# Altium footprint library stratos.PcbLib: 39 footprints (part 2 of 3)
Each footprint in its own frame and in the unit in brackets; x right, y up, seen from the top. Pads: shape width x height; smd on the part's side, far side on the other; paste and mask are expansions set on the pad; w line width, h text height; cw(c..) or ccw(c..) is an arc to the next point about the centre after c.
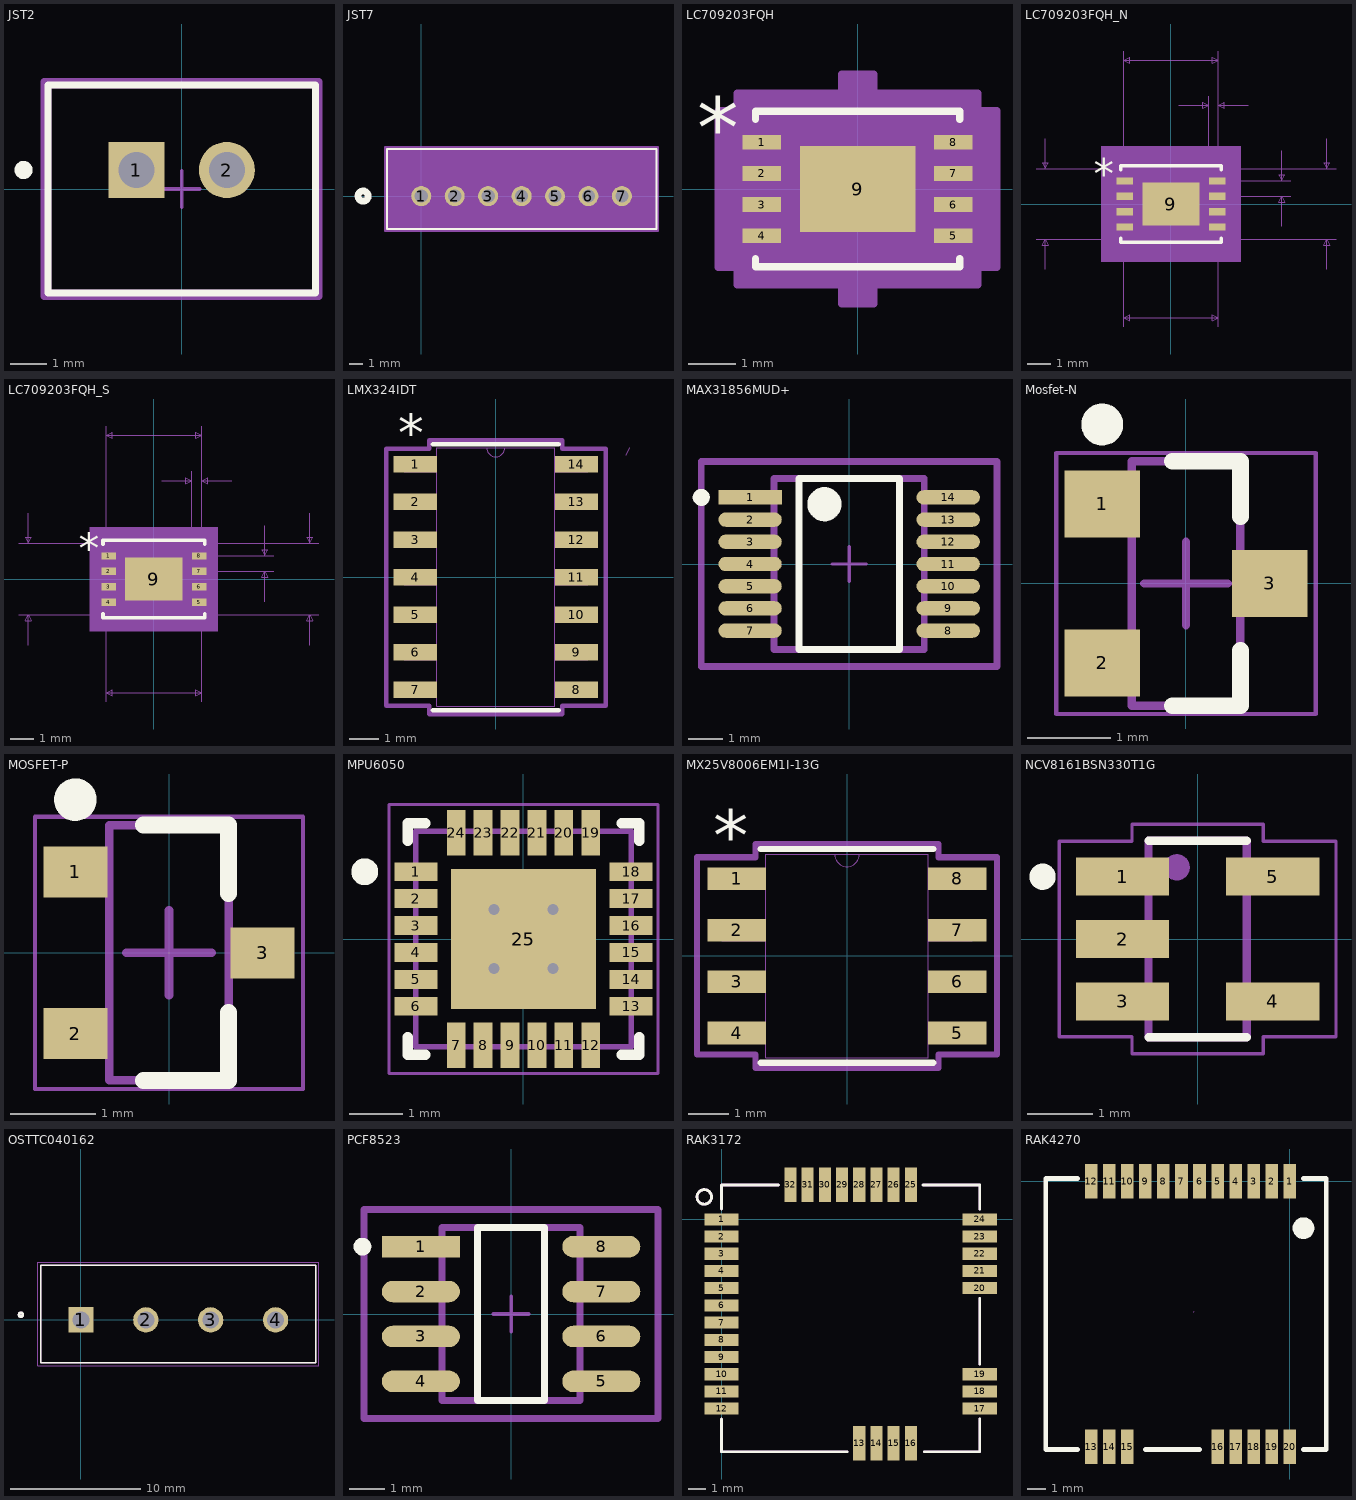
[diagram p1: the footprints below, top view; thin cyan lines are the x and y axes]

## JST2 [mm] "CONN HEADER VERT 2POS 2.5MM"
pads (2):
  rect 1.55x1.55 hole 1 paste-1000 mask+0: 1(-1.25,0.525)
  round 1.55 hole 1 paste-1000 mask+0: 2(1.25,0.525)
Top Overlay:
  circle w0.25: c-4.375,0.525 r0.125
  lines w0.2: -3.7,-2.875 -3.7,2.875 3.7,2.875 3.7,-2.875 -3.7,-2.875
Mechanical 5:
  lines w0.2: -3.8,-2.975 -3.8,2.975 3.8,2.975 3.8,-2.975 -3.8,-2.975
  text ".Designator" at 0,0.188 h1
Mechanical 29:
  lines w0.2: -3.7,-2.875 -3.7,2.875 3.7,2.875 3.7,-2.875 -3.7,-2.875
Mechanical 15:
  lines w0.2: -3.8,-2.975 -3.8,2.975 3.8,2.975 3.8,-2.975 -3.8,-2.975
Mechanical 16:
  lines w0.1: -0.5,0 0.5,0 ; 0,-0.5 0,0.5
3D body "Conn_JST_B2B-XH-A_LF_SN_eec.STEP": height 0.25, standoff 0, extent -3.8,-2.975 3.8,2.975

## JST7 [mil] "CONN HEADER VERT 7POS 2.5MM"
pads (7):
  round 59 hole 39 mask+0: 1(0,0) 2(98.43,0) 3(196.85,0) 4(295.28,0) 5(393.7,0) 6(492.13,0) 7(590.55,0)
Top Overlay:
  circle w20: c-171.22,0 r15
  lines w6: -101.22,-97.14 -101.22,138.86 691.78,138.86 691.78,-97.14 -101.22,-97.14
Bottom Overlay:
  circle w20: c-171.22,0 r15
Mechanical 29:
  lines w1: -96.22,-92.14 -96.22,133.86 686.78,133.86 686.78,-92.14 -96.22,-92.14
Mechanical 15:
  region: 696.78,143.86 -106.22,143.86 -106.22,-102.14 696.78,-102.14
  lines w6: -106.22,-102.14 696.78,-102.14 696.78,143.86 -106.22,143.86 -106.22,-102.14
3D body: height 10, standoff 0, extent 0,0 10,10
3D body "User Library-B7B-XH-A.STEP": height 283.46, standoff -125.98, extent -96.45,-92.52 687.01,133.86

## LC709203FQH [mm] "IC BATT MON LI-ION 1CELL 8WDFN"
pads (9):
  rect 0.806x0.306 smd paste+0 mask+0: 1(-2.003,0.975) 2(-2.003,0.325) 3(-2.003,-0.325) 4(-2.003,-0.975) 5(2.003,-0.975) 6(2.003,-0.325) 7(2.003,0.325) 8(2.003,0.975)
  rect 2.413x1.803 smd paste+0 mask+0: 9(0,0)
Top Overlay:
  lines w0.152: -2.134,-1.461 -2.134,-1.626 2.134,-1.626 2.134,-1.461 ; -2.134,1.461 -2.134,1.626 2.134,1.626 2.134,1.461
  text "*" at -3.359,0.665 h1.27
Mechanical 29:
  lines w0.025: -2.007,0.229 -0.737,1.499 ; -2.007,-1.499 -2.007,1.499 2.007,1.499 2.007,-1.499 -2.007,-1.499 ; -2.007,-1.153 -2.007,-0.797 -2.007,-1.153 ; -2.007,-0.503 -2.007,-0.147 -2.007,-0.503 ; -2.007,0.147 -2.007,0.503 -2.007,0.147 ; -2.007,0.797 -2.007,1.153 -2.007,0.797 ; 2.007,-1.153 2.007,-0.797 2.007,-1.153 ; 2.007,-0.503 2.007,-0.147 2.007,-0.503 ; 2.007,0.147 2.007,0.503 2.007,0.147 ; 2.007,0.797 2.007,1.153 2.007,0.797
Mechanical 15:
  region: -0.336,-2.007 -2.515,-2.007 -2.515,-1.636 -2.915,-1.636 -2.915,1.636 -2.515,1.636 -2.515,2.007 -0.336,2.007 -0.336,2.407 0.336,2.407 0.336,2.007 2.515,2.007 2.515,1.636 2.915,1.636 2.915,-1.636 2.515,-1.636 2.515,-2.007 0.336,-2.007 0.336,-2.407 -0.336,-2.407
  lines w0.152: -2.915,-1.636 -2.915,1.636 -2.515,1.636 -2.515,2.007 -0.336,2.007 -0.336,2.407 0.336,2.407 0.336,2.007 2.515,2.007 2.515,1.636 2.915,1.636 2.915,-1.636 2.515,-1.636 2.515,-2.007 0.336,-2.007 0.336,-2.407 -0.336,-2.407 -0.336,-2.007 -2.515,-2.007 -2.515,-1.636 -2.915,-1.636
3D body "WDFN8_4X3_ONS.step": height 0.81, standoff 0, extent -2.007,-1.499 2.007,1.499
3D body: height 0.25, standoff 0, extent 0,0 0.254,0.254

## LC709203FQH_N [mm]
pads (9):
  rect 0.706x0.306 smd paste+0 mask+0: 1(-1.953,0.975) 2(-1.953,0.325) 3(-1.953,-0.325) 4(-1.953,-0.975) 5(1.953,-0.975) 6(1.953,-0.325) 7(1.953,0.325) 8(1.953,0.975)
  rect 2.413x1.803 smd paste+0 mask+0: 9(0,0)
Top Overlay:
  lines w0.152: -2.134,-1.461 -2.134,-1.626 2.134,-1.626 2.134,-1.461 ; -2.134,1.461 -2.134,1.626 2.134,1.626 2.134,1.461
  text "*" at -3.259,0.665 h1.27
Mechanical 5:
  region: 2.942,-2.434 -2.942,-2.434 -2.942,2.434 2.942,2.434
Mechanical 7:
  lines w0.025: -5.713,-1.499 2.007,-1.499 ; -5.713,1.499 2.007,1.499 2.007,-5.205 ; -5.332,-2.769 -5.332,-1.499 ; -5.332,2.769 -5.332,1.499 ; -2.007,-5.205 -2.007,1.499 ; -2.007,0.975 -2.007,6.475 ; -0.325,-1.499 6.983,-1.499 ; -0.325,1.499 6.983,1.499 ; 0.33,4.189 1.6,4.189 ; 1.6,0.975 1.6,4.57 ; 1.953,0.325 5.078,0.325 ; 1.953,0.975 5.078,0.975 ; 2.007,4.57 2.007,0.975 2.007,6.475 ; 3.277,4.189 2.007,4.189 ; 4.697,-0.945 4.697,0.325 ; 4.697,2.245 4.697,0.975 ; 6.602,-2.769 6.602,-1.499 ; 6.602,2.769 6.602,1.499 ; -5.332,-1.499 -5.459,-1.753 -5.205,-1.753 -5.332,-1.499 ; -5.332,1.499 -5.459,1.753 -5.205,1.753 -5.332,1.499 ; -2.007,-4.824 2.007,-4.824 ; -2.007,-4.824 -1.753,-4.697 -1.753,-4.951 -2.007,-4.824 ; -2.007,6.094 2.007,6.094 ; -2.007,6.094 -1.753,6.221 -1.753,5.967 -2.007,6.094 ; 1.6,4.189 1.346,4.316 1.346,4.062 1.6,4.189 ; 2.007,-4.824 1.753,-4.697 1.753,-4.951 2.007,-4.824 ; 2.007,4.189 2.261,4.316 2.261,4.062 2.007,4.189 ; 2.007,6.094 1.753,6.221 1.753,5.967 2.007,6.094 ; 4.697,0.325 4.57,0.071 4.824,0.071 4.697,0.325 ; 4.697,0.975 4.57,1.229 4.824,1.229 4.697,0.975 ; 6.602,-1.499 6.475,-1.753 6.729,-1.753 6.602,-1.499 ; 6.602,1.499 6.475,1.753 6.729,1.753 6.602,1.499
  text "Default Padstyle: r31_71" at -7.62,-9.673 h1.27
  text "Heat Tab Padstyle: r241_180" at -8.572,-11.197 h1.27
  text "Alt 1 Padstyle: b152_229h76" at -8.572,-14.245 h1.27
  text "Alt 2 Padstyle: b229_152h76" at -8.572,-15.769 h1.27
  text "0.026in/0.65mm" at 5.205,0.332 h0.64
  text "0.016in/0.406mm" at -0.578,4.697 h0.64
  text "0.158in/4.013mm" at -2.381,6.602 h0.64
  text "0.118in/2.997mm" at 7.11,-0.318 h0.64
  text "0.118in/2.997mm" at -10.602,-0.318 h0.64
  text "0.158in/4.013mm" at -2.381,-5.967 h0.64
Mechanical 29:
  lines w0.025: -2.007,0.229 -0.737,1.499 ; -2.007,-1.499 2.007,-1.499 2.007,1.499 -2.007,1.499 -2.007,-1.499 ; -2.007,-1.153 -2.007,-0.797 -2.007,-1.153 ; -2.007,-0.503 -2.007,-0.147 -2.007,-0.503 ; -2.007,0.147 -2.007,0.503 -2.007,0.147 ; -2.007,0.797 -2.007,1.153 -2.007,0.797 ; 2.007,-1.153 2.007,-0.797 2.007,-1.153 ; 2.007,-0.503 2.007,-0.147 2.007,-0.503 ; 2.007,0.147 2.007,0.503 2.007,0.147 ; 2.007,0.797 2.007,1.153 2.007,0.797
  text "*" at -1.918,0.665 h1.27
Mechanical 15:
  region: -0.082,-1.753 -2.261,-1.753 -2.261,-1.382 -2.561,-1.382 -2.561,1.382 -2.261,1.382 -2.261,1.753 -0.082,1.753 -0.082,2.053 0.082,2.053 0.082,1.753 2.261,1.753 2.261,1.382 2.561,1.382 2.561,-1.382 2.261,-1.382 2.261,-1.753 0.082,-1.753 0.082,-2.053 -0.082,-2.053
  lines w0.152: -2.561,-1.382 -2.261,-1.382 -2.261,-1.753 -0.082,-1.753 -0.082,-2.053 0.082,-2.053 0.082,-1.753 2.261,-1.753 2.261,-1.382 2.561,-1.382 2.561,1.382 2.261,1.382 2.261,1.753 0.082,1.753 0.082,2.053 -0.082,2.053 -0.082,1.753 -2.261,1.753 -2.261,1.382 -2.561,1.382 -2.561,-1.382
3D body: height 0.25, standoff 0, extent 0,0 0.254,0.254

## LC709203FQH_S [mm]
pads (9):
  rect 0.606x0.306 smd paste+0 mask+0: 1(-1.903,0.975) 2(-1.903,0.325) 3(-1.903,-0.325) 4(-1.903,-0.975) 5(1.903,-0.975) 6(1.903,-0.325) 7(1.903,0.325) 8(1.903,0.975)
  rect 2.413x1.803 smd paste+0 mask+0: 9(0,0)
Top Overlay:
  lines w0.152: -2.134,-1.461 -2.134,-1.626 2.134,-1.626 2.134,-1.461 ; -2.134,1.461 -2.134,1.626 2.134,1.626 2.134,1.461
  text "*" at -3.159,0.665 h1.27
Mechanical 5:
  region: 2.689,-2.181 -2.689,-2.181 -2.689,2.181 2.689,2.181
Mechanical 7:
  lines w0.025: -5.663,-1.499 2.007,-1.499 ; -5.663,1.499 2.007,1.499 2.007,-5.155 ; -5.282,-2.769 -5.282,-1.499 ; -5.282,2.769 -5.282,1.499 ; -2.007,-5.155 -2.007,1.499 ; -2.007,0.975 -2.007,6.425 ; -0.325,-1.499 6.933,-1.499 ; -0.325,1.499 6.933,1.499 ; 0.33,4.139 1.6,4.139 ; 1.6,0.975 1.6,4.52 ; 1.903,0.325 5.028,0.325 ; 1.903,0.975 5.028,0.975 ; 2.007,4.52 2.007,0.975 2.007,6.425 ; 3.277,4.139 2.007,4.139 ; 4.647,-0.945 4.647,0.325 ; 4.647,2.245 4.647,0.975 ; 6.552,-2.769 6.552,-1.499 ; 6.552,2.769 6.552,1.499 ; -5.282,-1.499 -5.409,-1.753 -5.155,-1.753 -5.282,-1.499 ; -5.282,1.499 -5.409,1.753 -5.155,1.753 -5.282,1.499 ; -2.007,-4.774 2.007,-4.774 ; -2.007,-4.774 -1.753,-4.647 -1.753,-4.901 -2.007,-4.774 ; -2.007,6.044 2.007,6.044 ; -2.007,6.044 -1.753,6.171 -1.753,5.917 -2.007,6.044 ; 1.6,4.139 1.346,4.266 1.346,4.012 1.6,4.139 ; 2.007,-4.774 1.753,-4.647 1.753,-4.901 2.007,-4.774 ; 2.007,4.139 2.261,4.266 2.261,4.012 2.007,4.139 ; 2.007,6.044 1.753,6.171 1.753,5.917 2.007,6.044 ; 4.647,0.325 4.52,0.071 4.774,0.071 4.647,0.325 ; 4.647,0.975 4.52,1.229 4.774,1.229 4.647,0.975 ; 6.552,-1.499 6.425,-1.753 6.679,-1.753 6.552,-1.499 ; 6.552,1.499 6.425,1.753 6.679,1.753 6.552,1.499
  text "Default Padstyle: r31_61" at -7.62,-9.573 h1.27
  text "Heat Tab Padstyle: r241_180" at -8.572,-11.097 h1.27
  text "Alt 1 Padstyle: b152_229h76" at -8.572,-14.145 h1.27
  text "Alt 2 Padstyle: b229_152h76" at -8.572,-15.669 h1.27
  text "0.026in/0.65mm" at 5.155,0.332 h0.64
  text "0.016in/0.406mm" at -0.578,4.647 h0.64
  text "0.158in/4.013mm" at -2.381,6.552 h0.64
  text "0.118in/2.997mm" at 7.06,-0.318 h0.64
  text "0.118in/2.997mm" at -10.552,-0.318 h0.64
  text "0.158in/4.013mm" at -2.381,-5.917 h0.64
Mechanical 29:
  lines w0.025: -2.007,0.229 -0.737,1.499 ; -2.007,-1.499 2.007,-1.499 2.007,1.499 -2.007,1.499 -2.007,-1.499 ; -2.007,-1.153 -2.007,-0.797 -2.007,-1.153 ; -2.007,-0.503 -2.007,-0.147 -2.007,-0.503 ; -2.007,0.147 -2.007,0.503 -2.007,0.147 ; -2.007,0.797 -2.007,1.153 -2.007,0.797 ; 2.007,-1.153 2.007,-0.797 2.007,-1.153 ; 2.007,-0.503 2.007,-0.147 2.007,-0.503 ; 2.007,0.147 2.007,0.503 2.007,0.147 ; 2.007,0.797 2.007,1.153 2.007,0.797
  text "*" at -1.918,0.665 h1.27
Mechanical 15:
  region: 0.071,-1.6 -2.108,-1.6 -2.108,-1.229 -2.308,-1.229 -2.308,1.229 -2.108,1.229 -2.108,1.6 0.071,1.6 0.071,1.8 -0.071,1.8 -0.071,1.6 2.108,1.6 2.108,1.229 2.308,1.229 2.308,-1.229 2.108,-1.229 2.108,-1.6 -0.071,-1.6 -0.071,-1.8 0.071,-1.8
  lines w0.152: -2.308,-1.229 -2.108,-1.229 -2.108,-1.6 0.071,-1.6 0.071,-1.8 -0.071,-1.8 -0.071,-1.6 2.108,-1.6 2.108,-1.229 2.308,-1.229 2.308,1.229 2.108,1.229 2.108,1.6 -0.071,1.6 -0.071,1.8 0.071,1.8 0.071,1.6 -2.108,1.6 -2.108,1.229 -2.308,1.229 -2.308,-1.229
3D body: height 0.25, standoff 0, extent 0,0 0.254,0.254

## LMX324IDT [mil] "IC OPAMP GP 4 CIRCUIT 14SO"
pads (14):
  rect 57.5x22 smd paste+0 mask+0: 1(-107.25,150) 2(-107.25,100) 3(-107.25,50) 4(-107.25,0) 5(-107.25,-50) 6(-107.25,-100) 7(-107.25,-150) 8(107.25,-150) 9(107.25,-100) 10(107.25,-50) 11(107.25,0) 12(107.25,50) 13(107.25,100) 14(107.25,150)
Top Overlay:
  lines w6: -83.5,-177 83.5,-177 ; -83.5,177 83.5,177
  text "*" at -129.75,167 h50
Mechanical 7:
  lines w1: 173.5,162 178.5,172
Mechanical 29:
  lines w0: -12,172 ccw(c0,172) 12,172
  lines w1: -122,-160 -122,-140 -78.5,-140 -78.5,-160 -122,-160 ; -122,-110 -122,-90 -78.5,-90 -78.5,-110 -122,-110 ; -122,-60 -122,-40 -78.5,-40 -78.5,-60 -122,-60 ; -122,-10 -122,10 -78.5,10 -78.5,-10 -122,-10 ; -122,40 -122,60 -78.5,60 -78.5,40 -122,40 ; -122,90 -122,110 -78.5,110 -78.5,90 -122,90 ; -122,140 -122,160 -78.5,160 -78.5,140 -122,140 ; -78.5,-172 78.5,-172 78.5,172 -78.5,172 -78.5,-172 ; 78.5,-160 78.5,-140 122,-140 122,-160 78.5,-160 ; 78.5,-110 78.5,-90 122,-90 122,-110 78.5,-110 ; 78.5,-60 78.5,-40 122,-40 122,-60 78.5,-60 ; 78.5,-10 78.5,10 122,10 122,-10 78.5,-10 ; 78.5,40 78.5,60 122,60 122,40 78.5,40 ; 78.5,90 78.5,110 122,110 122,90 78.5,90 ; 78.5,140 78.5,160 122,160 122,140 78.5,140
  text "*" at -76,119 h50
Mechanical 15:
  lines w6: -146,-171 -146,171 -88.5,171 -88.5,182 88.5,182 88.5,171 146,171 146,-171 88.5,-171 88.5,-182 -88.5,-182 -88.5,-171 -146,-171
3D body "LMX324IDT.step": height 69.09, standoff 0, extent -122,-172.01 122.01,172.01

## MAX31856MUD+ [mm] "IC CONV THERMOCOUPLE 14TSSOP"
pads (14):
  rect 1.857x0.421 smd paste+0 mask+0: 1(-2.901,1.95)
  rrect100% 1.857x0.421 smd paste+0 mask+0: 2(-2.901,1.3) 3(-2.901,0.65) 4(-2.901,0) 5(-2.901,-0.65) 6(-2.901,-1.3) 7(-2.901,-1.95) 8(2.901,-1.95) 9(2.901,-1.3) 10(2.901,-0.65) 11(2.901,0) 12(2.901,0.65) 13(2.901,1.3) 14(2.901,1.95)
Top Overlay:
  circle w0.25: c-4.329,1.95 r0.125
  circle w0.5: c-0.722,1.75 r0.25
  lines w0.2: -1.472,-2.5 -1.472,2.5 1.472,2.5 1.472,-2.5 -1.472,-2.5
Mechanical 5:
  lines w0.2: -4.329,-3 -4.329,3 4.329,3 4.329,-3 -4.329,-3
  text ".Designator" at 0,0.188 h1
Mechanical 29:
  lines w0.2: -2.2,-2.5 -2.2,2.5 2.2,2.5 2.2,-2.5 -2.2,-2.5
Mechanical 15:
  lines w0.2: -4.329,-3 -4.329,3 4.329,3 4.329,-3 -4.329,-3
Mechanical 16:
  lines w0.1: -0.5,0 0.5,0 ; 0,-0.5 0,0.5
3D body "MAX31856MUD+--3DModel-STEP-56544.STEP": height 1.1, standoff 0, extent -3.327,-2.5 3.073,2.5

## Mosfet-N [mm] "2N7002"
pads (3):
  rect 0.9x0.8 smd: 1(-1,0.95) 2(-1,-0.95) 3(1,0)
Top Overlay:
  circle w0.25: c-1,1.9 r0.125
  lines w0.2: -0.165,-1.46 0.65,-1.46 0.65,-0.8 ; -0.165,1.46 0.65,1.46 0.65,0.8
Mechanical 29:
  lines w0.1: -0.65,-1.46 0.65,-1.46 0.65,1.46 -0.65,1.46 -0.65,-1.46
Mechanical 15:
  lines w0.05: -1.55,-1.56 1.55,-1.56 1.55,1.56 -1.55,1.56 -1.55,-1.56
  lines w0.1: -0.5,0 0.5,0 ; 0,-0.5 0,0.5
3D body: height 1.11, standoff 0.01, extent -0.65,-1.46 0.65,1.46

## MOSFET-P [mm] "BSS83PH6327XTSA1"
pads (3):
  rect 0.75x0.6 smd: 1(-1.1,0.95) 2(-1.1,-0.95) 3(1.1,0)
Top Overlay:
  circle w0.25: c-1.1,1.8 r0.125
  lines w0.2: -0.3,-1.5 0.7,-1.5 0.7,-0.7 ; -0.3,1.5 0.7,1.5 0.7,0.7
Mechanical 29:
  lines w0.1: -0.7,-1.5 0.7,-1.5 0.7,1.5 -0.7,1.5 -0.7,-1.5
Mechanical 15:
  lines w0.05: -1.575,-1.6 1.575,-1.6 1.575,1.6 -1.575,1.6 -1.575,-1.6
  lines w0.1: -0.5,0 0.5,0 ; 0,-0.5 0,0.5
3D body: height 1.1, standoff 0.1, extent -0.7,-1.5 0.7,1.5

## MPU6050 [mm]
pads (25):
  rect 0.8x0.35 smd: 1(-2,1.25) 2(-2,0.75) 3(-2,0.25) 4(-2,-0.25) 5(-2,-0.75) 6(-2,-1.25) 13(2,-1.25) 14(2,-0.75) 15(2,-0.25) 16(2,0.25) 17(2,0.75) 18(2,1.25)
  rect 0.35x0.85 smd mask+0.102: 7(-1.25,-1.975) 8(-0.75,-1.975) 9(-0.25,-1.975) 10(0.25,-1.975) 11(0.75,-1.975) 12(1.25,-1.975) 19(1.25,1.975) 20(0.75,1.975) 21(0.25,1.975) 22(-0.25,1.975) 23(-0.75,1.975) 24(-1.25,1.975)
  rect 2.7x2.6 smd: 25(0,0)
via -0.55,-0.55 diameter 0.5 hole 0.2
via 0.55,-0.55 diameter 0.5 hole 0.2
via 0.55,0.55 diameter 0.5 hole 0.2
via -0.55,0.55 diameter 0.5 hole 0.2
Top Overlay:
  circle w0.25: c-2.95,1.25 r0.125
  lines w0.2: -2.15,-1.825 -2.15,-2.15 -1.825,-2.15 ; -2.15,1.825 -2.15,2.15 -1.825,2.15 ; 1.825,-2.15 2.15,-2.15 2.15,-1.825 ; 1.825,2.15 2.15,2.15 2.15,1.825
Mechanical 29:
  lines w0.1: -2,-2 -2,2 2,2 2,-2 -2,-2
Mechanical 15:
  lines w0.05: -2.5,-2.5 2.5,-2.5 2.5,2.5 -2.5,2.5 -2.5,-2.5
  lines w0.1: -0.5,0 0.5,0 ; 0,-0.5 0,0.5
3D body: height 0.95, standoff 0, extent -1.999,-1.999 1.999,1.999

## MX25V8006EM1I-13G [mil] "FLASH - NOR Memoria IC 8Mb (1M x 8) SPI 75 MHz 8-SOP"
pads (8):
  rect 57x22 smd paste+0 mask+0: 1(-107.5,75) 2(-107.5,25) 3(-107.5,-25) 4(-107.5,-75) 5(107.5,-75) 6(107.5,-25) 7(107.5,25) 8(107.5,75)
Top Overlay:
  lines w6: -84,-104 84,-104 ; -84,104 84,104
  text "*" at -130,92 h50
Mechanical 29:
  lines w0: -12,99 ccw(c0,99) 12,99
  lines w1: -122,-85 -79,-85 -79,-65 -122,-65 -122,-85 ; -122,-35 -79,-35 -79,-15 -122,-15 -122,-35 ; -122,15 -79,15 -79,35 -122,35 -122,15 ; -122,65 -79,65 -79,85 -122,85 -122,65 ; -79,-99 -79,99 79,99 79,-99 -79,-99 ; 79,-85 122,-85 122,-65 79,-65 79,-85 ; 79,-35 122,-35 122,-15 79,-15 79,-35 ; 79,15 122,15 122,35 79,35 79,15 ; 79,65 122,65 122,85 79,85 79,65
  text "*" at -76.5,46 h50
Mechanical 15:
  lines w6: -146,-96 -89,-96 -89,-109 89,-109 89,-96 146,-96 146,96 89,96 89,109 -89,109 -89,96 -146,96 -146,-96
3D body "SOP8_150MIL_MAC.step": height 69.09, standoff 0, extent -122.01,-99.02 122.01,99.02

## NCV8161BSN330T1G [mm] "IC REG LINEAR 3.3V 450MA 5TSOP"
pads (5):
  rect 1.42x0.58 smd: 1(-1.145,0.95) 2(-1.145,0) 3(-1.145,-0.95) 4(1.145,-0.95) 5(1.145,0.95)
Top Overlay:
  circle w0.2: c-2.365,0.95 r0.1
  lines w0.127: -0.75,-1.5 0.75,-1.5 ; -0.75,1.5 0.75,1.5
Mechanical 29:
  circle w0.2: c-0.319,1.093 r0.1
  lines w0.127: -0.75,-1.5 0.75,-1.5 0.75,1.5 -0.75,1.5 -0.75,-1.5
Mechanical 15:
  lines w0.05: -2.11,-1.49 -1,-1.49 -1,-1.75 1,-1.75 1,-1.49 2.11,-1.49 2.11,1.49 1,1.49 1,1.75 -1,1.75 -1,1.49 -2.11,1.49 -2.11,-1.49
3D body "NCV8161BSN330T1G.STEP": height 1.1, standoff 0, extent -1.375,-1.5 1.375,1.5

## OSTTC040162 [mm] "TERM BLK 4POS SIDE ENTRY 5MM PCB"
pads (4):
  rect 1.95x1.95 hole 1.3: 1(0,0)
  round 1.95 hole 1.3: 2(5,0) 3(10,0) 4(15,0)
Top Overlay:
  circle w0.2: c-4.63,0.39 r0.15
  lines w0.127: -3.1,-3.3 -3.1,4.2 18.1,4.2 18.1,-3.3 -3.1,-3.3
Mechanical 29:
  circle w0.2: c-4.63,0.39 r0.15
  lines w0.127: -3.1,-3.3 -3.1,4.2 18.1,4.2 18.1,-3.3 -3.1,-3.3
Mechanical 15:
  lines w0.05: -3.35,-3.55 -3.35,4.45 18.35,4.45 18.35,-3.55 -3.35,-3.55
3D body "OSTTC040162.stp": height 10, standoff -3.5, extent 7.5,-4.2 18.1,4
3D body "OSTTC040162.stp": height 10, standoff -3.5, extent -2.5,-4.2 8.1,4

## PCF8523 [mm]
pads (8):
  rect 2.204x0.608 smd paste+0 mask+0: 1(-2.551,1.905)
  rrect100% 2.204x0.608 smd paste+0 mask+0: 2(-2.551,0.635) 3(-2.551,-0.635) 4(-2.551,-1.905) 5(2.551,-1.905) 6(2.551,-0.635) 7(2.551,0.635) 8(2.551,1.905)
Top Overlay:
  circle w0.25: c-4.203,1.905 r0.125
  lines w0.2: -0.949,-2.45 0.949,-2.45 0.949,2.45 -0.949,2.45 -0.949,-2.45
Mechanical 5:
  lines w0.2: -4.153,-2.95 4.153,-2.95 4.153,2.95 -4.153,2.95 -4.153,-2.95
  text ".Designator" at 0,0.188 h1
Mechanical 29:
  lines w0.2: -1.95,-2.45 1.95,-2.45 1.95,2.45 -1.95,2.45 -1.95,-2.45
Mechanical 15:
  lines w0.2: -4.153,-2.95 4.153,-2.95 4.153,2.95 -4.153,2.95 -4.153,-2.95
Mechanical 16:
  lines w0.1: -0.5,0 0.5,0 ; 0,-0.5 0,0.5
3D body "IC_NXP_Semiconductors_SA602AD-01_118_eec.STEP": height 0.25, standoff 0, extent -4.153,-2.95 4.153,2.95

## RAK3172 [mm] "RAK3172 WisDuo LPWAN Module"
height 3.5
pads (32):
  rect 2x0.7 smd: 1(0,0) 2(0,-1) 3(0,-2) 4(0,-3) 5(0,-4) 6(0,-5) 7(0,-6) 8(0,-7) 9(0,-8) 10(0,-9) 11(0,-10) 12(0,-11) 17(15,-11) 18(15,-10) 19(15,-9) 20(15,-4) 21(15,-3) 22(15,-2) 23(15,-1) 24(15,0)
  rect 0.7x2 smd: 13(8,-13) 14(9,-13) 15(10,-13) 16(11,-13) 25(11,2) 26(10,2) 27(9,2) 28(8,2) 29(7,2) 30(6,2) 31(5,2) 32(4,2)
Top Overlay:
  circle w0.17: c-1,1.3 r0.424
  lines w0.17: 0,-11.6 0,-13.5 7.3,-13.5 ; 0,0.6 0,2 3.3,2 ; 11.7,2 15,2 15,0.6 ; 11.8,-13.5 15,-13.5 15,-11.6 ; 15,-8.4 15,-4.6
Mechanical 29 (Mech29):
  circle w0.17: c-1,1.3 r0.424
  lines w0.17: 0,-11.6 0,-13.5 7.3,-13.5 ; 0,0.6 0,2 3.3,2 ; 11.7,2 15,2 15,0.6 ; 11.8,-13.5 15,-13.5 15,-11.6 ; 15,-8.4 15,-4.6
  text "'.Designator'" at 6.22,-5.675 h0.6
3D body "3D_RAK3172.stp": height 3.5, standoff -0.01, extent 0,-13.5 15,2

## RAK4270 [mm]
pads (20):
  rect 0.7x1.9 smd: 1(0,0) 2(-1,0) 3(-2,0) 4(-3,0) 5(-4,0) 6(-5,0) 7(-6,0) 8(-7,0) 9(-8,0) 10(-9,0) 11(-10,0) 12(-11,0) 13(-11,-14.7) 14(-10,-14.7) 15(-9,-14.7) 16(-4,-14.7) 17(-3,-14.7) 18(-2,-14.7) 19(-1,-14.7) 20(0,-14.7)
Top Overlay:
  lines w0.254: -11.75,-14.85 -13.5,-14.85 -13.5,0.15 -11.75,0.15 ; -8,-14.85 -5,-14.85 ; 0.75,-14.85 2,-14.85 2,0.15 0.75,0.15
  lines w0.6: 1.05,-2.603 cw(c0.75,-2.6) 1.05,-2.597
Mechanical 15:
  lines w0.003: -5.331,-7.248 -5.28,-7.198
3D body "PWB-RAK4270.stp": height 2.5, standoff 0, extent -13.5,-14.859 2,0.141